# EAGLE library part SN75176BDR (library SN75176BDR)
SN75176BDR, Line Transceiver Differential, 5 V, 8-Pin SOIC Source: Datasheet <http://www.ti.com/lit/ds/symlink/sn75176b.pdf>
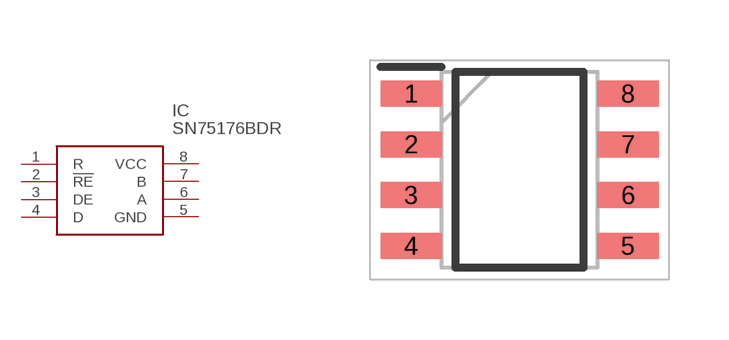
[diagram p0: symbol with the pads of SOIC127P600X175-8N; footprint SOIC127P600X175-8N]

Designator prefix IC

## SN75176BDR (Arrow_Part_Number: SN75176BDR; Arrow_Price-Stock: https://www.arrow.com/en/products/sn75176bdr/texas-instruments; Description: SN75176BDR, Line Transceiver Differential, 5 V, 8-Pin SOIC; Height: 1.75mm; Manufacturer_Name: Texas Instruments; Manufacturer_Part_Number: SN75176BDR; Mouser_Part_Number: 595-SN75176BDR; Mouser_Price-Stock: https://www.mouser.co.uk/ProductDetail/Texas-Instruments/SN75176BDR?qs=sbcp%2F4gpy09LI1PRfuQQ%252BA%3D%3D)  [SOIC127P600X175-8N]
1  R
2  !RE
3  DE
4  D
5  GND
6  A
7  B
8  VCC

## Footprint SOIC127P600X175-8N (pad centres in mm)
D
smd 1.528 x 0.65: 1 -2.711,1.905; 2 -2.711,0.635; 3 -2.711,-0.635; 4 -2.711,-1.905; 5 2.711,-1.905; 6 2.711,-0.635; 7 2.711,0.635; 8 2.711,1.905